# EAGLE library part MS-5607 (library altimeter_module)
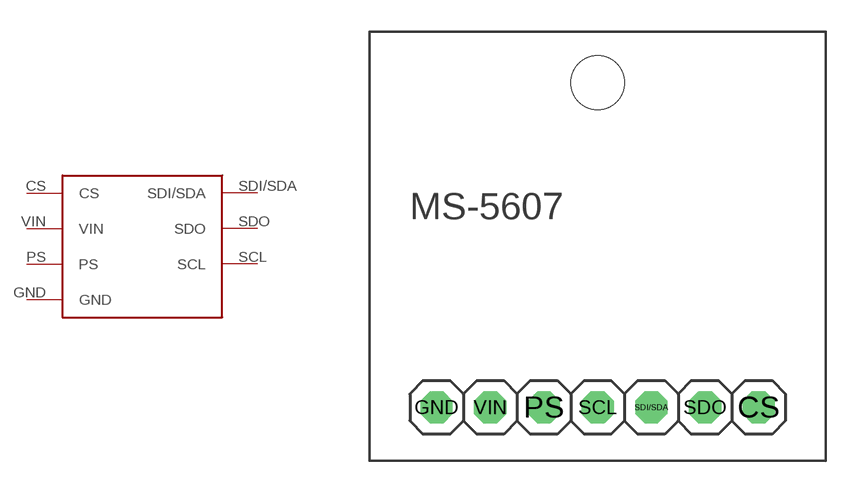
[diagram p0: symbol with the pads of MS-5607; footprint MS-5607]

Designator prefix -

## MS-5607  [MS-5607]
CS  CS
GND  GND
PS  PS
SCL  SCL
SDI/SDA  SDI/SDA
SDO  SDO
VIN  VIN

## Footprint MS-5607 (pad centres in mm)
drill 1.016 octagon: CS 7.62,-7.62; GND -7.62,-7.62; PS -2.54,-7.62; SCL 0,-7.62; SDI/SDA 2.54,-7.62; SDO 5.08,-7.62; VIN -5.08,-7.62
hole 2.54 at 0,7.747